# EAGLE library part XE-ECI (library TF_Atari)
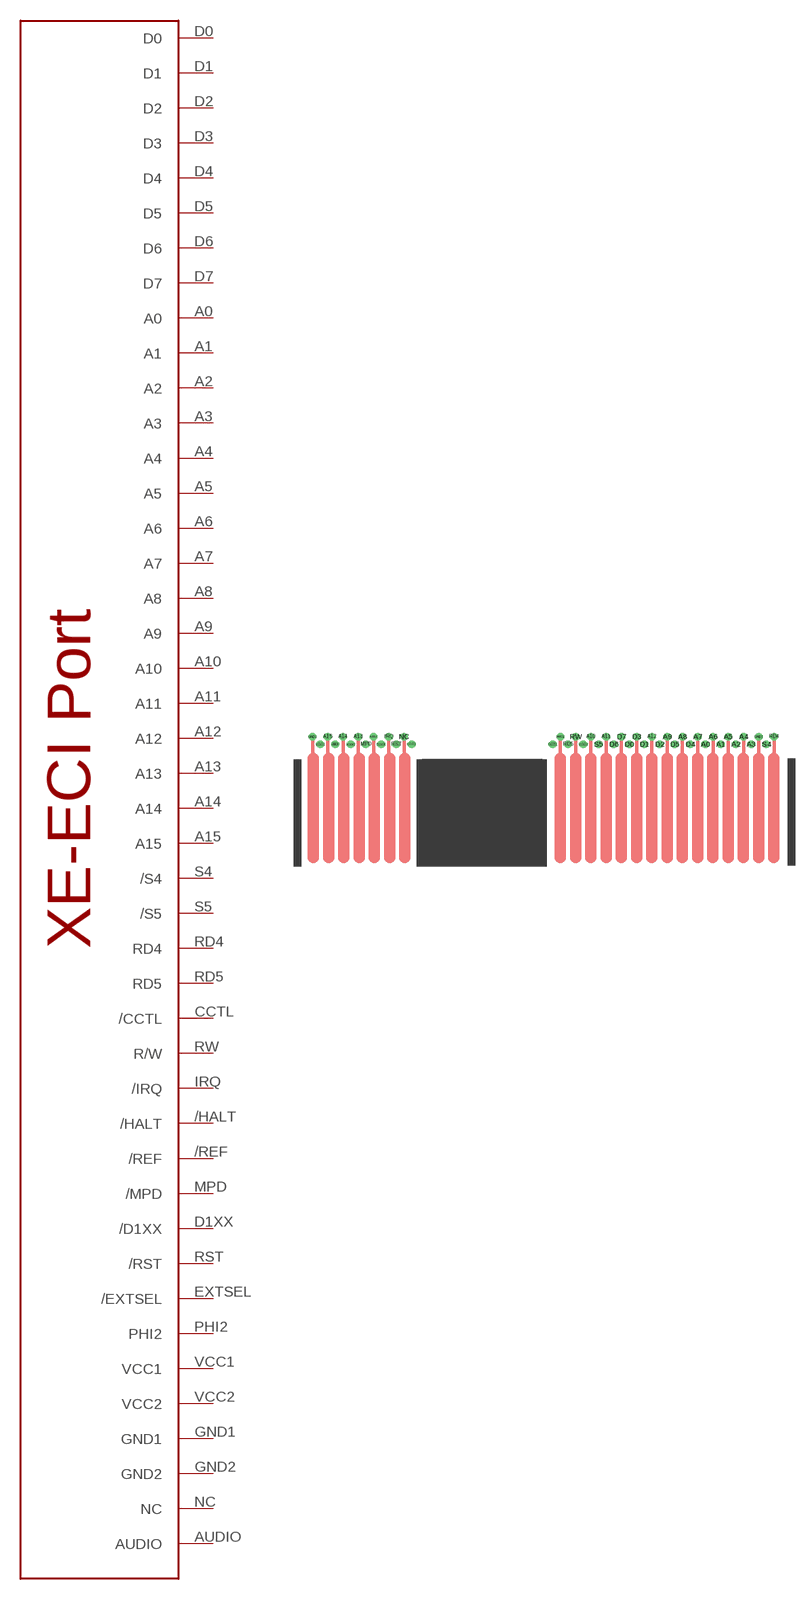
[diagram p6: symbol with the pads of XE-ECI; footprint XE-ECI]

Designator prefix -

## XE-ECI  [XE-ECI]
/HALT  /HALT
/REF  /REF
A0  A0
A1  A1
A2  A2
A3  A3
A4  A4
A5  A5
A6  A6
A7  A7
A8  A8
A9  A9
A10  A10
A11  A11
A12  A12
A13  A13
A14  A14
A15  A15
AUDIO  AUDIO
CCTL  /CCTL
D0  D0
D1  D1
D1XX  /D1XX
D2  D2
D3  D3
D4  D4
D5  D5
D6  D6
D7  D7
EXTSEL  /EXTSEL
GND1  GND1
GND2  GND2
IRQ  /IRQ
MPD  /MPD
NC  NC
PHI2  PHI2
RD4  RD4
RD5  RD5
RST  /RST
RW  R/W
S4  /S4
S5  /S5
VCC1  VCC1
VCC2  VCC2

## Footprint XE-ECI (pad centres in mm)
drill 0.8 pad 1.27: /HALT -17.78,8.89; /REF -24.13,7.62; A0 37.465,7.62; A1 40.005,7.62; A2 42.545,7.62; A3 45.085,7.62; A4 43.815,8.89; A5 41.275,8.89; A6 38.735,8.89; A7 36.195,8.89; A8 33.655,8.89; A9 31.115,8.89; A10 18.415,8.89; A11 20.955,8.89; A12 28.575,8.89; A13 -20.32,8.89; A14 -22.86,8.89; A15 -25.4,8.89; AUDIO -21.59,7.62; CCTL 12.065,7.62; D0 24.765,7.62; D1 27.305,7.62; D1XX -16.51,7.62; D2 29.845,7.62; D3 26.035,8.89; D4 34.925,7.62; D5 32.385,7.62; D6 22.225,7.62; D7 23.495,8.89; EXTSEL -11.43,7.62; GND1 -27.94,8.89; GND2 46.355,8.89; IRQ -15.24,8.89; MPD -19.05,7.62; NC -12.7,8.89; PHI2 13.335,8.89; RD4 48.895,8.89; RD5 14.605,7.62; RST -13.97,7.62; RW 15.875,8.89; S4 47.625,7.62; S5 19.685,7.62; VCC1 -26.67,7.62; VCC2 17.145,7.62